# Altium integrated library WE_WR-PHD_Pin Header & Jumper_2.00 mm _rev15a.IntLib: 36 symbols
Pins are listed as number, name and electrical type; pins without a type are passive.

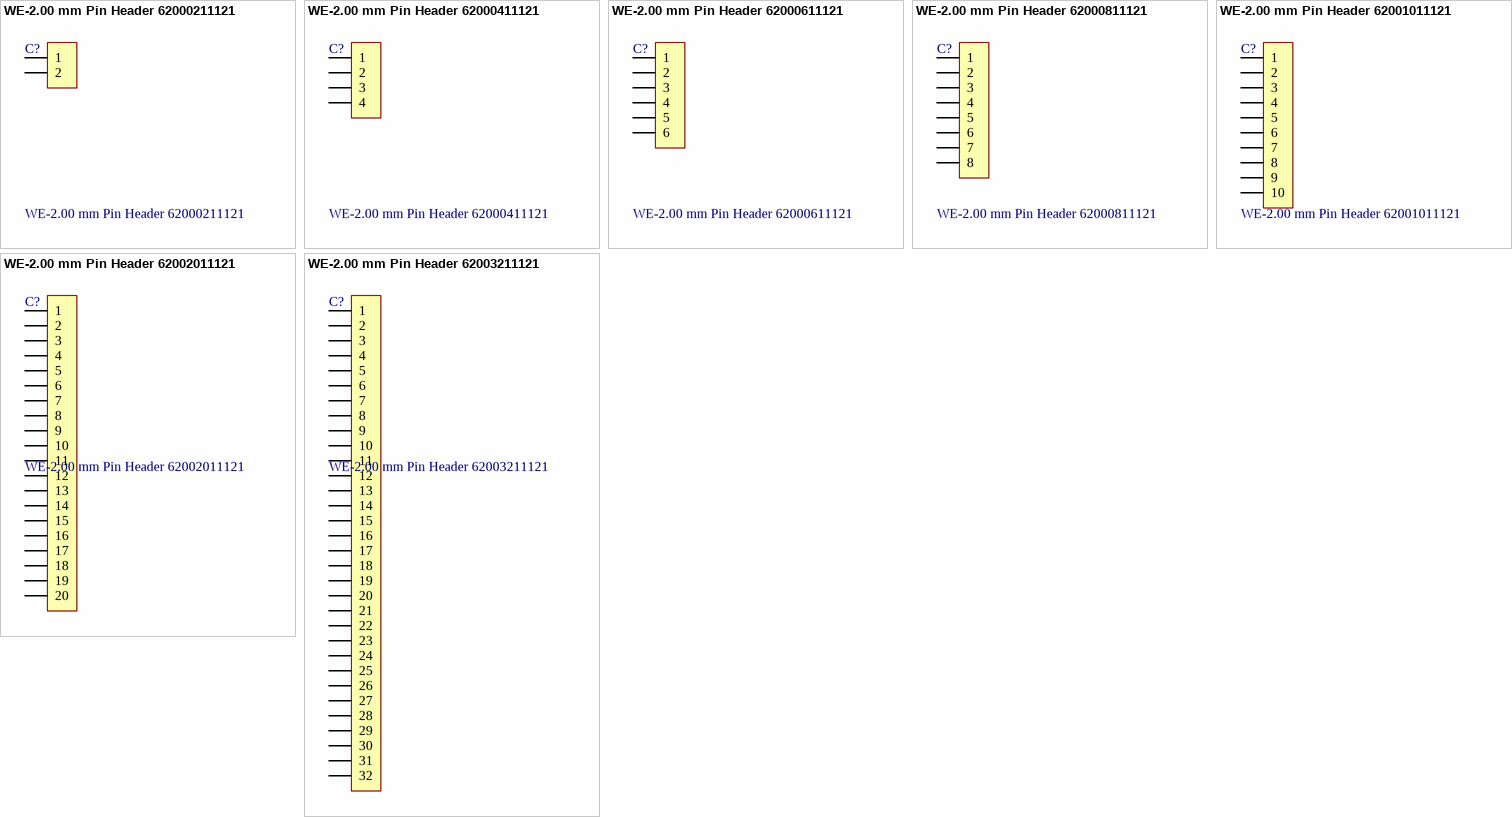
[diagram p0: symbols WE-2.00 mm Pin Header 62000211121 to WE-2.00 mm Pin Header 62003211121]

## WE-2.00 mm Pin Header 62000211121
designator C?
WR-PHD 2.00 mm Pin Header; Manufacturer: Würth Elektronik eiSos GmbH; ComponentLink1 Description: Manufacturer; ComponentLink2 Description: Datasheet; NoPins: 02; Created Date: 2 April 2013; partNo: 62000211121; ComponentLink1URL: http://www.we-online.com; ComponentLink2URL: http://katalog.we-online.de/em/datasheet/6200xx11121.pdf; Created by: Karrer Zheng
footprint 62000211121 (2 pins, 1 row, straight, gold plating)
pins: 1, 2

## WE-2.00 mm Pin Header 62000411121
designator C?
WR-PHD 2.00 mm Pin Header; Manufacturer: Würth Elektronik eiSos GmbH; ComponentLink1 Description: Manufacturer; ComponentLink2 Description: Datasheet; NoPins: 04; Created Date: 2 April 2013; partNo: 62000411121; ComponentLink1URL: http://www.we-online.com; ComponentLink2URL: http://katalog.we-online.de/em/datasheet/6200xx11121.pdf; Created by: Karrer Zheng
footprint 62000411121 (4 pins, 1 row, straight, gold plating)
pins: 1, 2, 3, 4

## WE-2.00 mm Pin Header 62000611121
designator C?
WR-PHD 2.00 mm Pin Header; Manufacturer: Würth Elektronik eiSos GmbH; ComponentLink1 Description: Manufacturer; ComponentLink2 Description: Datasheet; NoPins: 06; Created Date: 2 April 2013; partNo: 62000611121; ComponentLink1URL: http://www.we-online.com; ComponentLink2URL: http://katalog.we-online.de/em/datasheet/6200xx11121.pdf; Created by: Karrer Zheng
footprint 62000611121 (6 pins, 1 row, straight, gold plating)
pins: 1, 2, 3, 4, 5, 6

## WE-2.00 mm Pin Header 62000811121
designator C?
WR-PHD 2.00 mm Pin Header; Manufacturer: Würth Elektronik eiSos GmbH; ComponentLink1 Description: Manufacturer; ComponentLink2 Description: Datasheet; NoPins: 08; Created Date: 2 April 2013; partNo: 62000811121; ComponentLink1URL: http://www.we-online.com; ComponentLink2URL: http://katalog.we-online.de/em/datasheet/6200xx11121.pdf; Created by: Karrer Zheng
footprint 62000811121 (8 pins, 1 row, straight, gold plating)
pins: 1, 2, 3, 4, 5, 6, 7, 8

## WE-2.00 mm Pin Header 62001011121
designator C?
WR-PHD 2.00 mm Pin Header; Manufacturer: Würth Elektronik eiSos GmbH; ComponentLink1 Description: Manufacturer; ComponentLink2 Description: Datasheet; NoPins: 10; Created Date: 2 April 2013; partNo: 62001011121; ComponentLink1URL: http://www.we-online.com; ComponentLink2URL: http://katalog.we-online.de/em/datasheet/6200xx11121.pdf; Created by: Karrer Zheng
footprint 62001011121 (10 pins, 1 row, straight, gold plating)
pins: 1, 2, 3, 4, 5, 6, 7, 8, 9, 10

## WE-2.00 mm Pin Header 62002011121
designator C?
WR-PHD 2.00 mm Pin Header; Manufacturer: Würth Elektronik eiSos GmbH; ComponentLink1 Description: Manufacturer; ComponentLink2 Description: Datasheet; NoPins: 20; Created Date: 2 April 2013; partNo: 62002011121; ComponentLink1URL: http://www.we-online.com; ComponentLink2URL: http://katalog.we-online.de/em/datasheet/6200xx11121.pdf; Created by: Karrer Zheng
footprint 62002011121 (20 pins, 1 row, straight, gold plating)
pins: 1, 2, 3, 4, 5, 6, 7, 8, 9, 10, 11, 12, 13, 14, 15, 16, 17, 18, 19, 20

## WE-2.00 mm Pin Header 62003211121
designator C?
WR-PHD 2.00 mm Pin Header; Manufacturer: Würth Elektronik eiSos GmbH; ComponentLink1 Description: Manufacturer; ComponentLink2 Description: Datasheet; NoPins: 32; Created Date: 2 April 2013; partNo: 62003211121; ComponentLink1URL: http://www.we-online.com; ComponentLink2URL: http://katalog.we-online.de/em/datasheet/6200xx11121.pdf; Created by: Karrer Zheng
footprint 62003211121 (32 pins, 1 row, straight, gold plating)
pins: 1, 2, 3, 4, 5, 6, 7, 8, 9, 10, 11, 12, 13, 14, 15, 16, 17, 18, 19, 20, 21, 22, 23, 24, 25, 26, 27, 28, 29, 30, 31, 32


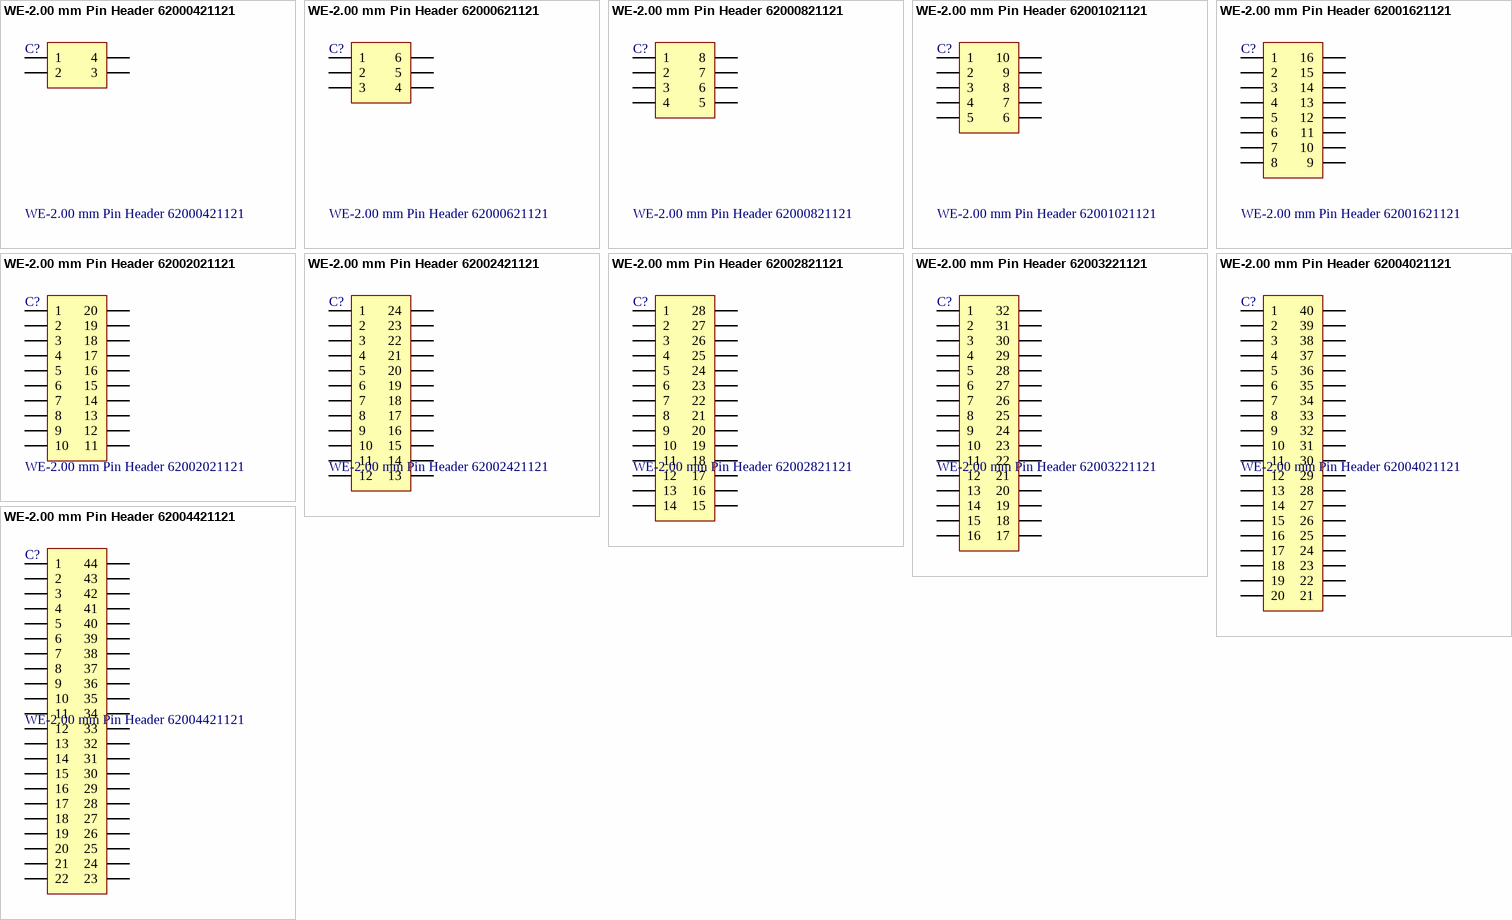
[diagram p1: symbols WE-2.00 mm Pin Header 62000421121 to WE-2.00 mm Pin Header 62004421121]

## WE-2.00 mm Pin Header 62000421121
designator C?
WR-PHD 2.00 mm Dual Pin Header; Manufacturer: Würth Elektronik eiSos GmbH; ComponentLink1 Description: Manufacturer; ComponentLink2 Description: Datasheet; NoPins: 04; Created Date: 2 April 2013; partNo: 62000421121; ComponentLink1URL: http://www.we-online.com; ComponentLink2URL: http://katalog.we-online.de/em/datasheet/6200xx21121.pdf; Created by: Karrer Zheng
footprint 62000421121 (4 pins, dual row, straight, gold plating)
pins: 1, 2, 3, 4

## WE-2.00 mm Pin Header 62000621121
designator C?
WR-PHD 2.00 mm Dual Pin Header; Manufacturer: Würth Elektronik eiSos GmbH; ComponentLink1 Description: Manufacturer; ComponentLink2 Description: Datasheet; NoPins: 06; Created Date: 2 April 2013; partNo: 62000621121; ComponentLink1URL: http://www.we-online.com; ComponentLink2URL: http://katalog.we-online.de/em/datasheet/6200xx21121.pdf; Created by: Karrer Zheng
footprint 62000621121 (6 pins, dual row, straight, gold plating)
pins: 1, 2, 3, 4, 5, 6

## WE-2.00 mm Pin Header 62000821121
designator C?
WR-PHD 2.00 mm Dual Pin Header; Manufacturer: Würth Elektronik eiSos GmbH; ComponentLink1 Description: Manufacturer; ComponentLink2 Description: Datasheet; NoPins: 08; Created Date: 2 April 2013; partNo: 62000821121; ComponentLink1URL: http://www.we-online.com; ComponentLink2URL: http://katalog.we-online.de/em/datasheet/6200xx21121.pdf; Created by: Karrer Zheng
footprint 62000821121 (8 pins, dual row, straight, gold plating)
pins: 1, 2, 3, 4, 5, 6, 7, 8

## WE-2.00 mm Pin Header 62001021121
designator C?
WR-PHD 2.00 mm Dual Pin Header; Manufacturer: Würth Elektronik eiSos GmbH; ComponentLink1 Description: Manufacturer; ComponentLink2 Description: Datasheet; NoPins: 10; Created Date: 2 April 2013; partNo: 62001021121; ComponentLink1URL: http://www.we-online.com; ComponentLink2URL: http://katalog.we-online.de/em/datasheet/6200xx21121.pdf; Created by: Karrer Zheng
footprint 62001021121 (10 pins, dual row, straight, gold plating)
pins: 1, 2, 3, 4, 5, 6, 7, 8, 9, 10

## WE-2.00 mm Pin Header 62001621121
designator C?
WR-PHD 2.00 mm Dual Pin Header; Manufacturer: Würth Elektronik eiSos GmbH; ComponentLink1 Description: Manufacturer; ComponentLink2 Description: Datasheet; NoPins: 16; Created Date: 2 April 2013; partNo: 62001621121; ComponentLink1URL: http://www.we-online.com; ComponentLink2URL: http://katalog.we-online.de/em/datasheet/6200xx21121.pdf; Created by: Karrer Zheng
footprint 62001621121 (16 pins, dual row, straight, gold plating)
pins: 1, 2, 3, 4, 5, 6, 7, 8, 9, 10, 11, 12, 13, 14, 15, 16

## WE-2.00 mm Pin Header 62002021121
designator C?
WR-PHD 2.00 mm Dual Pin Header; Manufacturer: Würth Elektronik eiSos GmbH; ComponentLink1 Description: Manufacturer; ComponentLink2 Description: Datasheet; NoPins: 20; Created Date: 2 April 2013; partNo: 62002021121; ComponentLink1URL: http://www.we-online.com; ComponentLink2URL: http://katalog.we-online.de/em/datasheet/6200xx21121.pdf; Created by: Karrer Zheng
footprint 62002021121 (20 pins, dual row, straight, gold plating)
pins: 1, 2, 3, 4, 5, 6, 7, 8, 9, 10, 11, 12, 13, 14, 15, 16, 17, 18, 19, 20

## WE-2.00 mm Pin Header 62002421121
designator C?
WR-PHD 2.00 mm Dual Pin Header; Manufacturer: Würth Elektronik eiSos GmbH; ComponentLink1 Description: Manufacturer; ComponentLink2 Description: Datasheet; NoPins: 24; Created Date: 2 April 2013; partNo: 62002421121; ComponentLink1URL: http://www.we-online.com; ComponentLink2URL: http://katalog.we-online.de/em/datasheet/6200xx21121.pdf; Created by: Karrer Zheng
footprint 62002421121 (24 pins, dual row, straight, gold plating)
pins: 1, 2, 3, 4, 5, 6, 7, 8, 9, 10, 11, 12, 13, 14, 15, 16, 17, 18, 19, 20, 21, 22, 23, 24

## WE-2.00 mm Pin Header 62002821121
designator C?
WR-PHD 2.00 mm Dual Pin Header; Manufacturer: Würth Elektronik eiSos GmbH; ComponentLink1 Description: Manufacturer; ComponentLink2 Description: Datasheet; NoPins: 28; Created Date: 2 April 2013; partNo: 62002821121; ComponentLink1URL: http://www.we-online.com; ComponentLink2URL: http://katalog.we-online.de/em/datasheet/6200xx21121.pdf; Created by: Karrer Zheng
footprint 62002821121 (28 pins, dual row, straight, gold plating)
pins: 1, 2, 3, 4, 5, 6, 7, 8, 9, 10, 11, 12, 13, 14, 15, 16, 17, 18, 19, 20, 21, 22, 23, 24, 25, 26, 27, 28

## WE-2.00 mm Pin Header 62003221121
designator C?
WR-PHD 2.00 mm Dual Pin Header; Manufacturer: Würth Elektronik eiSos GmbH; ComponentLink1 Description: Manufacturer; ComponentLink2 Description: Datasheet; NoPins: 32; Created Date: 2 April 2013; partNo: 62003221121; ComponentLink1URL: http://www.we-online.com; ComponentLink2URL: http://katalog.we-online.de/em/datasheet/6200xx21121.pdf; Created by: Karrer Zheng
footprint 62003221121 (32 pins, dual row, straight, gold plating)
pins: 1, 2, 3, 4, 5, 6, 7, 8, 9, 10, 11, 12, 13, 14, 15, 16, 17, 18, 19, 20, 21, 22, 23, 24, 25, 26, 27, 28, 29, 30, 31, 32

## WE-2.00 mm Pin Header 62004021121
designator C?
WR-PHD 2.00 mm Dual Pin Header; Manufacturer: Würth Elektronik eiSos GmbH; ComponentLink1 Description: Manufacturer; ComponentLink2 Description: Datasheet; NoPins: 40; Created Date: 2 April 2013; partNo: 62004021121; ComponentLink1URL: http://www.we-online.com; ComponentLink2URL: http://katalog.we-online.de/em/datasheet/6200xx21121.pdf; Created by: Karrer Zheng
footprint 62004021121 (40 pins, dual row, straight, gold plating)
pins: 1, 2, 3, 4, 5, 6, 7, 8, 9, 10, 11, 12, 13, 14, 15, 16, 17, 18, 19, 20, 21, 22, 23, 24, 25, 26, 27, 28, 29, 30, 31, 32, 33, 34, 35, 36, 37, 38, 39, 40

## WE-2.00 mm Pin Header 62004421121
designator C?
WR-PHD 2.00 mm Dual Pin Header; Manufacturer: Würth Elektronik eiSos GmbH; ComponentLink1 Description: Manufacturer; ComponentLink2 Description: Datasheet; NoPins: 44; Created Date: 2 April 2013; partNo: 62004421121; ComponentLink1URL: http://www.we-online.com; ComponentLink2URL: http://katalog.we-online.de/em/datasheet/6200xx21121.pdf; Created by: Karrer Zheng
footprint 62004421121 (44pins, dual row, straight, gold plating)
pins: 1, 2, 3, 4, 5, 6, 7, 8, 9, 10, 11, 12, 13, 14, 15, 16, 17, 18, 19, 20, 21, 22, 23, 24, 25, 26, 27, 28, 29, 30, 31, 32, 33, 34, 35, 36, 37, 38, 39, 40, 41, 42, 43, 44


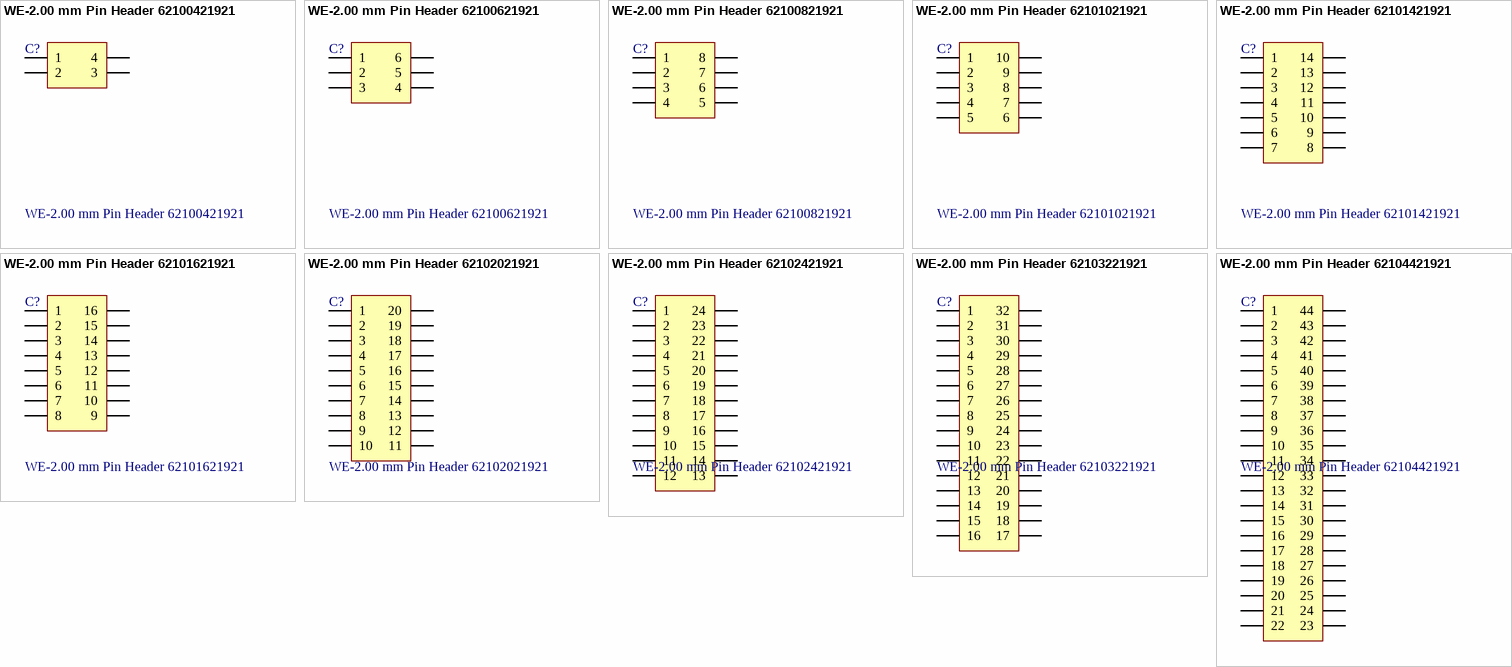
[diagram p2: symbols WE-2.00 mm Pin Header 62100421921 to WE-2.00 mm Pin Header 62104421921]

## WE-2.00 mm Pin Header 62100421921
designator C?
WR-PHD 2.00 mm Dual SMT Pin Header; Manufacturer: Würth Elektronik eiSos GmbH; ComponentLink1 Description: Manufacturer; ComponentLink2 Description: Datasheet; NoPins: 04; Created Date: 2 April 2013; partNo: 62100421921; ComponentLink1URL: http://www.we-online.com; ComponentLink2URL: http://katalog.we-online.de/em/datasheet/6210xx21921.pdf; Created by: Karrer Zheng
footprint 62100421921 (SMT, 4 pins, dual row, straight, gold plating)
pins: 1, 2, 3, 4

## WE-2.00 mm Pin Header 62100621921
designator C?
WR-PHD 2.00 mm Dual SMT Pin Header; Manufacturer: Würth Elektronik eiSos GmbH; ComponentLink1 Description: Manufacturer; ComponentLink2 Description: Datasheet; NoPins: 06; Created Date: 2 April 2013; partNo: 62100621921; ComponentLink1URL: http://www.we-online.com; ComponentLink2URL: http://katalog.we-online.de/em/datasheet/6210xx21921.pdf; Created by: Karrer Zheng
footprint 62100621921 (SMT, 6 pins, dual row, straight, gold plating)
pins: 1, 2, 3, 4, 5, 6

## WE-2.00 mm Pin Header 62100821921
designator C?
WR-PHD 2.00 mm Dual SMT Pin Header; Manufacturer: Würth Elektronik eiSos GmbH; ComponentLink1 Description: Manufacturer; ComponentLink2 Description: Datasheet; NoPins: 08; Created Date: 2 April 2013; partNo: 62100821921; ComponentLink1URL: http://www.we-online.com; ComponentLink2URL: http://katalog.we-online.de/em/datasheet/6210xx21921.pdf; Created by: Karrer Zheng
footprint 62100821921 (SMT, 8 pins, dual row, straight, gold plating)
pins: 1, 2, 3, 4, 5, 6, 7, 8

## WE-2.00 mm Pin Header 62101021921
designator C?
WR-PHD 2.00 mm Dual SMT Pin Header; Manufacturer: Würth Elektronik eiSos GmbH; ComponentLink1 Description: Manufacturer; ComponentLink2 Description: Datasheet; NoPins: 10; Created Date: 2 April 2013; partNo: 62101021921; ComponentLink1URL: http://www.we-online.com; ComponentLink2URL: http://katalog.we-online.de/em/datasheet/6210xx21921.pdf; Created by: Karrer Zheng
footprint 62101021921 (SMT, 10 pins, dual row, straight, gold plating)
pins: 1, 2, 3, 4, 5, 6, 7, 8, 9, 10

## WE-2.00 mm Pin Header 62101421921
designator C?
WR-PHD 2.00 mm Dual SMT Pin Header; Manufacturer: Würth Elektronik eiSos GmbH; ComponentLink1 Description: Manufacturer; ComponentLink2 Description: Datasheet; NoPins: 14; Created Date: 2 April 2013; partNo: 62101421921; ComponentLink1URL: http://www.we-online.com; ComponentLink2URL: http://katalog.we-online.de/em/datasheet/6210xx21921.pdf; Created by: Karrer Zheng
footprint 62101421921 (SMT, 14 pins, dual row, straight, gold plating)
pins: 1, 2, 3, 4, 5, 6, 7, 8, 9, 10, 11, 12, 13, 14

## WE-2.00 mm Pin Header 62101621921
designator C?
WR-PHD 2.00 mm Dual SMT Pin Header; Manufacturer: Würth Elektronik eiSos GmbH; ComponentLink1 Description: Manufacturer; ComponentLink2 Description: Datasheet; NoPins: 16; Created Date: 2 April 2013; partNo: 62101621921; ComponentLink1URL: http://www.we-online.com; ComponentLink2URL: http://katalog.we-online.de/em/datasheet/6210xx21921.pdf; Created by: Karrer Zheng
footprint 62101621921 (SMT, 16 pins, dual row, straight, gold plating)
pins: 1, 2, 3, 4, 5, 6, 7, 8, 9, 10, 11, 12, 13, 14, 15, 16

## WE-2.00 mm Pin Header 62102021921
designator C?
WR-PHD 2.00 mm Dual SMT Pin Header; Manufacturer: Würth Elektronik eiSos GmbH; ComponentLink1 Description: Manufacturer; ComponentLink2 Description: Datasheet; NoPins: 20; Created Date: 2 April 2013; partNo: 62102021921; ComponentLink1URL: http://www.we-online.com; ComponentLink2URL: http://katalog.we-online.de/em/datasheet/6210xx21921.pdf; Created by: Karrer Zheng
footprint 62102021921 (SMT, 20 pins, dual row, straight, gold plating)
pins: 1, 2, 3, 4, 5, 6, 7, 8, 9, 10, 11, 12, 13, 14, 15, 16, 17, 18, 19, 20

## WE-2.00 mm Pin Header 62102421921
designator C?
WR-PHD 2.00 mm Dual SMT Pin Header; Manufacturer: Würth Elektronik eiSos GmbH; ComponentLink1 Description: Manufacturer; ComponentLink2 Description: Datasheet; NoPins: 24; Created Date: 2 April 2013; partNo: 62102421921; ComponentLink1URL: http://www.we-online.com; ComponentLink2URL: http://katalog.we-online.de/em/datasheet/6210xx21921.pdf; Created by: Karrer Zheng
footprint 62102421921 (SMT, 24 pins, dual row, straight, gold plating)
pins: 1, 2, 3, 4, 5, 6, 7, 8, 9, 10, 11, 12, 13, 14, 15, 16, 17, 18, 19, 20, 21, 22, 23, 24

## WE-2.00 mm Pin Header 62103221921
designator C?
WR-PHD 2.00 mm Dual SMT Pin Header; Manufacturer: Würth Elektronik eiSos GmbH; ComponentLink1 Description: Manufacturer; ComponentLink2 Description: Datasheet; NoPins: 32; Created Date: 2 April 2013; partNo: 62103221921; ComponentLink1URL: http://www.we-online.com; ComponentLink2URL: http://katalog.we-online.de/em/datasheet/6210xx21921.pdf; Created by: Karrer Zheng
footprint 62103221921 (SMT, 32 pins, dual row, straight, gold plating)
pins: 1, 2, 3, 4, 5, 6, 7, 8, 9, 10, 11, 12, 13, 14, 15, 16, 17, 18, 19, 20, 21, 22, 23, 24, 25, 26, 27, 28, 29, 30, 31, 32

## WE-2.00 mm Pin Header 62104421921
designator C?
WR-PHD 2.00 mm Dual SMT Pin Header; Manufacturer: Würth Elektronik eiSos GmbH; ComponentLink1 Description: Manufacturer; ComponentLink2 Description: Datasheet; NoPins: 44; Created Date: 2 April 2013; partNo: 62104421921; ComponentLink1URL: http://www.we-online.com; ComponentLink2URL: http://katalog.we-online.de/em/datasheet/6210xx21921.pdf; Created by: Karrer Zheng
footprint 62104421921 (SMT, 44 pins, dual row, straight, gold plating)
pins: 1, 2, 3, 4, 5, 6, 7, 8, 9, 10, 11, 12, 13, 14, 15, 16, 17, 18, 19, 20, 21, 22, 23, 24, 25, 26, 27, 28, 29, 30, 31, 32, 33, 34, 35, 36, 37, 38, 39, 40, 41, 42, 43, 44


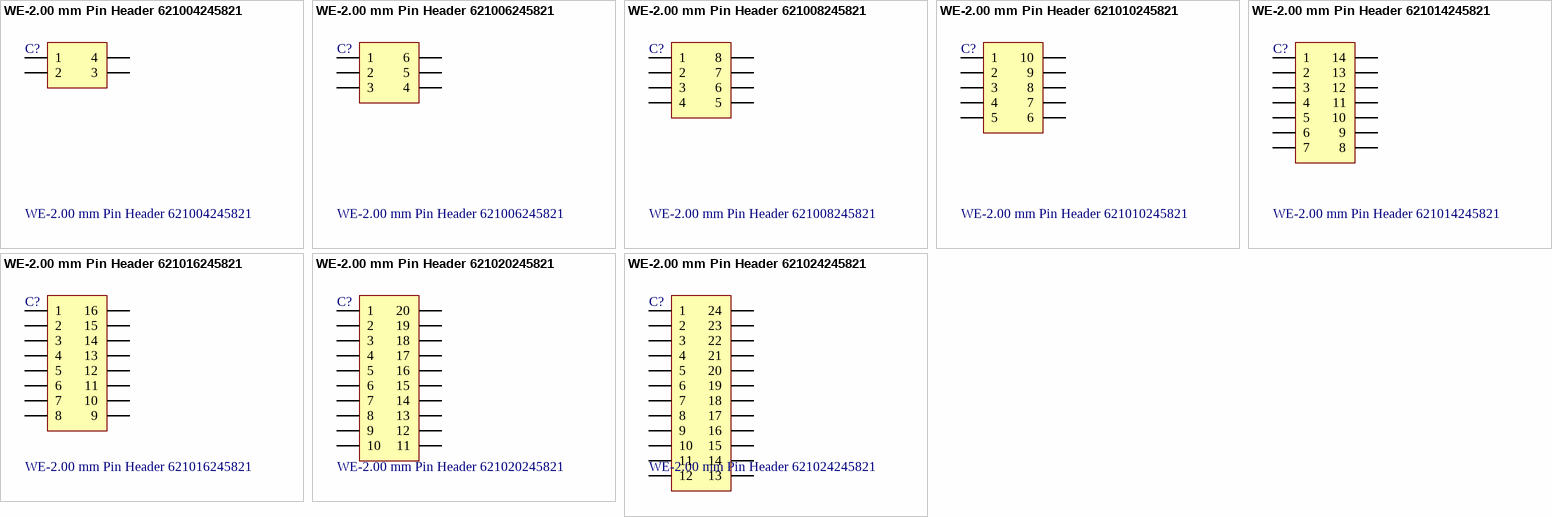
[diagram p3: symbols WE-2.00 mm Pin Header 621004245821 to WE-2.00 mm Pin Header 621024245821]

## WE-2.00 mm Pin Header 621004245821
designator C?
WR-PHD 2.00 mm Dual SMT Pin Header Low Profile; Manufacturer: Würth Elektronik eiSos GmbH; ComponentLink1 Description: Manufacturer; ComponentLink2 Description: Datasheet; NoPins: 04; Created Date: 2 April 2013; partNo: 621004245821; ComponentLink1URL: http://www.we-online.com; ComponentLink2URL: http://katalog.we-online.de/em/datasheet/6210xx245821.pdf; Created by: Karrer Zheng
footprint 621004245821 (SMT, 4 pins, dual row, straight, gold plating, 2mm long)
pins: 1, 2, 3, 4

## WE-2.00 mm Pin Header 621006245821
designator C?
WR-PHD 2.00 mm Dual SMT Pin Header Low Profile; Manufacturer: Würth Elektronik eiSos GmbH; ComponentLink1 Description: Manufacturer; ComponentLink2 Description: Datasheet; NoPins: 06; Created Date: 2 April 2013; partNo: 621006245821; ComponentLink1URL: http://www.we-online.com; ComponentLink2URL: http://katalog.we-online.de/em/datasheet/6210xx245821.pdf; Created by: Karrer Zheng
footprint 621006245821 (SMT, 6 pins, dual row, straight, gold plating 2mm long)
pins: 1, 2, 3, 4, 5, 6

## WE-2.00 mm Pin Header 621008245821
designator C?
WR-PHD 2.00 mm Dual SMT Pin Header Low Profile; Manufacturer: Würth Elektronik eiSos GmbH; ComponentLink1 Description: Manufacturer; ComponentLink2 Description: Datasheet; NoPins: 08; Created Date: 2 April 2013; partNo: 621008245821; ComponentLink1URL: http://www.we-online.com; ComponentLink2URL: http://katalog.we-online.de/em/datasheet/6210xx245821.pdf; Created by: Karrer Zheng
footprint 621008245821 (SMT, 8 pins, dual row, straight, gold plating 2mm long)
pins: 1, 2, 3, 4, 5, 6, 7, 8

## WE-2.00 mm Pin Header 621010245821
designator C?
WR-PHD 2.00 mm Dual SMT Pin Header Low Profile; Manufacturer: Würth Elektronik eiSos GmbH; ComponentLink1 Description: Manufacturer; ComponentLink2 Description: Datasheet; NoPins: 10; Created Date: 2 April 2013; partNo: 621010245821; ComponentLink1URL: http://www.we-online.com; ComponentLink2URL: http://katalog.we-online.de/em/datasheet/6210xx245821.pdf; Created by: Karrer Zheng
footprint 621010245821 (SMT, 10 pins, dual row, straight, gold plating 2mm long)
pins: 1, 2, 3, 4, 5, 6, 7, 8, 9, 10

## WE-2.00 mm Pin Header 621014245821
designator C?
WR-PHD 2.00 mm Dual SMT Pin Header Low Profile; Manufacturer: Würth Elektronik eiSos GmbH; ComponentLink1 Description: Manufacturer; ComponentLink2 Description: Datasheet; NoPins: 14; Created Date: 2 April 2013; partNo: 621014245821; ComponentLink1URL: http://www.we-online.com; ComponentLink2URL: http://katalog.we-online.de/em/datasheet/6210xx245821.pdf; Created by: Karrer Zheng
footprint 621014245821 (SMT, 14 pins, dual row, straight, gold plating 2mm long)
pins: 1, 2, 3, 4, 5, 6, 7, 8, 9, 10, 11, 12, 13, 14

## WE-2.00 mm Pin Header 621016245821
designator C?
WR-PHD 2.00 mm Dual SMT Pin Header Low Profile; Manufacturer: Würth Elektronik eiSos GmbH; ComponentLink1 Description: Manufacturer; ComponentLink2 Description: Datasheet; NoPins: 16; Created Date: 2 April 2013; partNo: 621016245821; ComponentLink1URL: http://www.we-online.com; ComponentLink2URL: http://katalog.we-online.de/em/datasheet/6210xx245821.pdf; Created by: Karrer Zheng
footprint 621016245821 (SMT, 16 pins, dual row, straight, gold plating 2mm long)
pins: 1, 2, 3, 4, 5, 6, 7, 8, 9, 10, 11, 12, 13, 14, 15, 16

## WE-2.00 mm Pin Header 621020245821
designator C?
WR-PHD 2.00 mm Dual SMT Pin Header Low Profile; Manufacturer: Würth Elektronik eiSos GmbH; ComponentLink1 Description: Manufacturer; ComponentLink2 Description: Datasheet; NoPins: 20; Created Date: 2 April 2013; partNo: 621020245821; ComponentLink1URL: http://www.we-online.com; ComponentLink2URL: http://katalog.we-online.de/em/datasheet/6210xx245821.pdf; Created by: Karrer Zheng
footprint 621020245821 (SMT, 20 pins, dual row, straight, gold plating 2mm long)
pins: 1, 2, 3, 4, 5, 6, 7, 8, 9, 10, 11, 12, 13, 14, 15, 16, 17, 18, 19, 20

## WE-2.00 mm Pin Header 621024245821
designator C?
WR-PHD 2.00 mm Dual SMT Pin Header Low Profile; Manufacturer: Würth Elektronik eiSos GmbH; ComponentLink1 Description: Manufacturer; ComponentLink2 Description: Datasheet; NoPins: 24; Created Date: 2 April 2013; partNo: 621024245821; ComponentLink1URL: http://www.we-online.com; ComponentLink2URL: http://katalog.we-online.de/em/datasheet/6210xx245821.pdf; Created by: Karrer Zheng
footprint 621024245821 (SMT, 24 pins, dual row, straight, gold plating 2mm long)
pins: 1, 2, 3, 4, 5, 6, 7, 8, 9, 10, 11, 12, 13, 14, 15, 16, 17, 18, 19, 20, 21, 22, 23, 24